# EAGLE library part POLOLU_DUAL_VNH5019 (library Pololo Dual VNH5019)
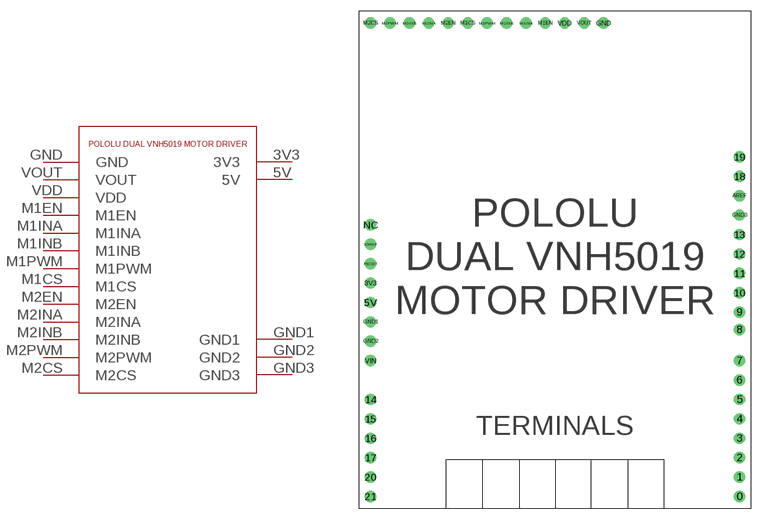
[diagram p0: symbol with the pads of POLOLU_DUAL_VNH5019; footprint POLOLU_DUAL_VNH5019]

Designator prefix -

## POLOLU_DUAL_VNH5019  [POLOLU_DUAL_VNH5019]
3V3  3V3
5V  5V
GND  GND
GND1  GND1
GND2  GND2
GND3  GND3
M1CS  M1CS
M1EN  M1EN
M1INA  M1INA
M1INB  M1INB
M1PWM  M1PWM
M2CS  M2CS
M2EN  M2EN
M2INA  M2INA
M2INB  M2INB
M2PWM  M2PWM
VDD  VDD
VOUT  VOUT

## Footprint POLOLU_DUAL_VNH5019 (pad centres in mm)
drill 0.965: 0 49.784,1.524; 1 49.784,4.064; 2 49.784,6.604; 3 49.784,9.144; 3V3 1.524,29.464; 4 49.784,11.684; 5 49.784,14.224; 5V 1.524,26.924; 6 49.784,16.764; 7 49.784,19.304; 8 49.784,23.368; 9 49.784,25.654; 10 49.784,28.194; 11 49.784,30.734; 12 49.784,33.274; 13 49.784,35.814; 14 1.524,14.224; 15 1.524,11.684; 16 1.524,9.144; 17 1.524,6.604; 18 49.784,43.434; 19 49.784,45.974; 20 1.524,4.064; 21 1.524,1.524; AREF 49.784,40.894; GND 32.004,63.5; GND1 1.524,24.384; GND2 1.524,21.844; GND3 49.784,38.354; IOREF 1.524,34.544; M1CS 14.224,63.5; M1EN 24.384,63.5; M1INA 21.844,63.5; M1INB 19.304,63.5; M1PWM 16.764,63.5; M2CS 1.524,63.5; M2EN 11.684,63.5; M2INA 9.144,63.5; M2INB 6.604,63.5; M2PWM 4.064,63.5; NC 1.524,37.084; RESET 1.524,32.004; VDD 26.924,63.5; VIN 1.524,19.304; VOUT 29.464,63.5